# Altium schematic symbol library bp2u+.SchLib: 1 symbol
Pins are listed as number, name and electrical type; pins without a type are passive.

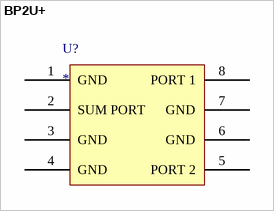
[diagram p0: symbol BP2U+]

## BP2U+
designator U?
RF spiltter/combiner
footprint BP2U+
pins: 1 GND, 2 SUM PORT, 3 GND, 4 GND, 5 PORT 2, 6 GND, 7 GND, 8 PORT 1